# Altium schematic symbol library Schlib1.SchLib: 15 symbols
Pins are listed as number, name and electrical type; pins without a type are passive.

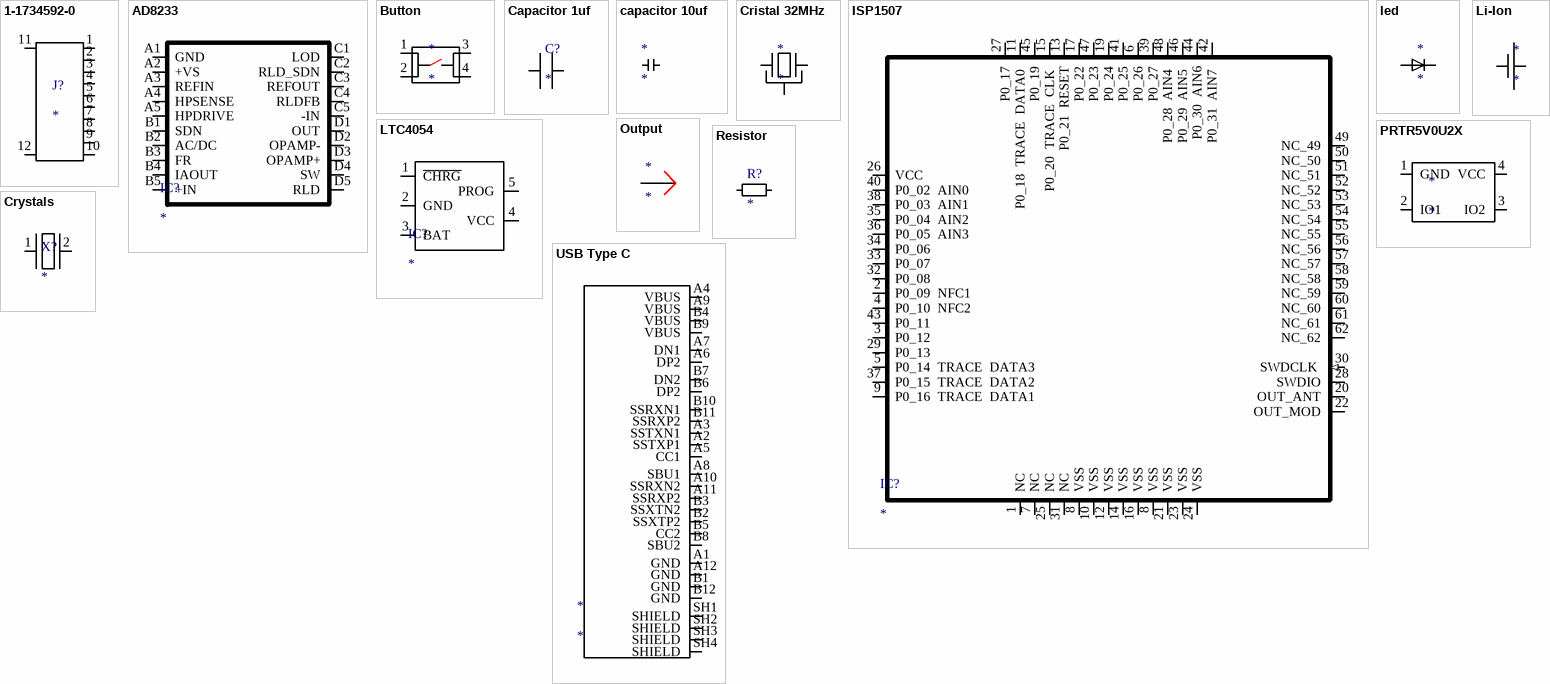
[diagram p0: symbols 1-1734592-0 to Сrystals]

## 1-1734592-0
designator J?
footprint 1-1734592-0
pins: 1, 2, 3, 4, 5, 6, 7, 8, 9, 10, 11, 12

## AD8233
designator IC?
footprint AD8233
pins: A1 GND, A2 +VS, A3 REFIN, A4 HPSENSE, A5 HPDRIVE (power), B1 SDN (power), B2 AC/DC (power), B3 FR (power), B4 IAOUT (power), B5 +IN (power), C1 LOD (power), C2 RLD_SDN (power), C3 REFOUT (power), C4 RLDFB (power), C5 -IN (power), D1 OUT (power), D2 OPAMP- (power), D3 OPAMP+ (power), D4 SW (power), D5 RLD (power)

## Button
designator *
footprint Button
pins: 1, 2, 3, 4

## Capacitor 1uf
designator C?
footprint Capac
pins: 1, 2

## capacitor 10uf
designator *
footprint CAPAC10
pins: 1, 2

## Cristal 32MHz
designator *
footprint Cristal 32MHz
pins: 1, 2, 3, 4

## ISP1507
designator IC?
footprint ISP1507
pins: 1 NC (power), 2 P0_09  NFC1 (io), 3 P0_12 (io), 4 P0_10  NFC2  (io), 5 P0_14  TRACE  DATA3 (io), 6 P0_26 (io), 7 NC (power), 8 VSS (power), 8 VSS (power), 9 P0_16  TRACE  DATA1 (io), 10 VSS (power), 11 P0_18  TRACE  DATA0  (io), 12 VSS (power), 13 P0_21  RESET (io), 14 VSS (power), 15 P0_20  TRACE  CLK  (io), 16 VSS (power), 17 P0_22 (io), 19 P0_24 (io), 20 OUT_ANT (io), 21 VSS (power), 22 OUT_MOD (io), 23 VSS (power), 24 VSS (power), 25 NC (power), 26 VCC (power), 27 P0_17 (io), 28 SWDIO (io), 29 P0_13 (io), 30 SWDCLK  (in), 31 NC (power), 32 P0_08 (io), 33 P0_07 (io), 34 P0_06 (io), 35 P0_04  AIN2 (io), 36 P0_05  AIN3 (io), 37 P0_15  TRACE  DATA2 (io), 38 P0_03  AIN1 (io), 39 P0_27 (io), 40 P0_02  AIN0 (io), 41 P0_25 (io), 42 P0_31  AIN7  (io), 43 P0_11 (io), 44 P0_30  AIN6 (io), 45 P0_19 (io), 46 P0_29  AIN5  (io), 47 P0_23 (io), 48 P0_28  AIN4  (io), 49 NC_49 (io), 50 NC_50 (io), 51 NC_51 (io), 52 NC_52 (io), 53 NC_53 (io), 54 NC_54 (io), 55 NC_55 (io), 56 NC_56 (io), 57 NC_57 (io), 58 NC_58 (io), 59 NC_59 (io), 60 NC_60 (io), 61 NC_61 (io), 62 NC_62 (io)

## led
designator *
footprint LED
pins: 1, 2

## Li-Ion
designator *
footprint LI-ion
pins: 1, 2, 3, 4, 5

## LTC4054
designator IC?
footprint LTC4054
pins: 1 ~{CHRG}, 2 GND (power), 3 BAT, 4 VCC (power), 5 PROG

## Output
designator *
footprint output
pins: 1

## PRTR5V0U2X
designator *
pins: 1 GND, 2 IO1, 3 IO2, 4 VCC (power)

## Resistor
designator R?
footprint Resistor 1
pins: 1, 2

## USB Type C
designator *
footprint Type C
pins: A1 GND, A2 SSTXP1, A3 SSTXN1, A4 VBUS, A5 CC1, A6 DP2, A7 DN1, A8 SBU1, A9 VBUS, A10 SSRXN2, A11 SSRXP2, A12 GND, B1 GND, B2 SSXTP2, B3 SSXTN2, B4 VBUS, B5 CC2, B6 DP2, B7 DN2, B8 SBU2, B9 VBUS, B10 SSRXN1, B11 SSRXP2, B12 GND, SH1 SHIELD, SH2 SHIELD, SH3 SHIELD, SH4 SHIELD

## Сrystals
designator X?
footprint Cristal
pins: 1, 2